# EAGLE library part USB_MICROB (library femtoduino)
This is the hirose ZX62-B-5PA(11) MICRO-USB B Type female connection.
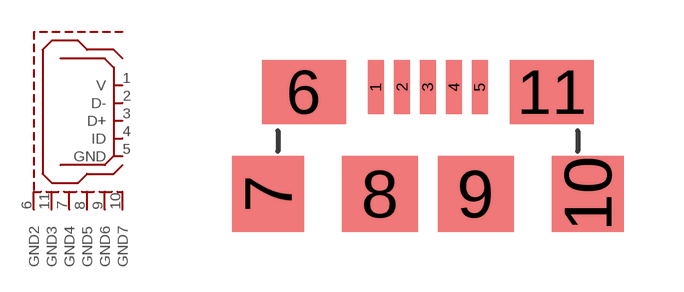
[diagram p4: symbol with the pads of USB_MICROB_PACKAGE; footprint USB_MICROB_PACKAGE]

Designator prefix -

## USB_MICROB  [USB_MICROB_PACKAGE]
1  V
2  D-
3  D+
4  ID
5  GND
6  GND2
7  GND4
8  GND5
9  GND6
10  GND7
11  GND3

## Footprint USB_MICROB_PACKAGE (pad centres in mm)
This is the hirose ZX62-B-5PA(11) MICRO-USB B Type female connection.
smd 0.4 x 1.35: 1 -1.3,1.47; 2 -0.64,1.47; 3 0,1.47; 4 0.66,1.47; 5 1.3,1.47
smd 2.1 x 1.6: 6 -3.1,1.35; 11 3.1,1.35
smd 1.8 x 1.9: 7 -4,-1.2; 10 4,-1.2
smd 1.9 x 1.9: 8 -1.2,-1.2; 9 1.2,-1.2